# Altium footprint library Power Wires.PcbLib: 1 footprints
Each footprint in its own frame and in the unit in brackets; x right, y up, seen from the top. Pads: shape width x height; smd on the part's side, far side on the other; paste and mask are expansions set on the pad; w line width, h text height; cw(c..) or ccw(c..) is an arc to the next point about the centre after c.
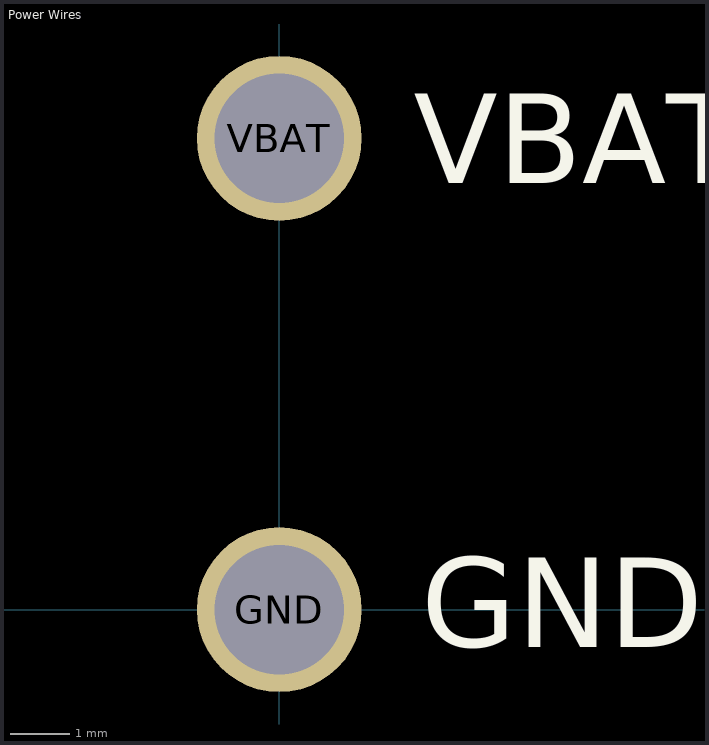
[diagram p0: the footprint, top view; thin cyan lines are the x and y axes]

## Power Wires [mm]
pads (2):
  round 2.8 hole 2.2: GND(0,0) VBAT(0,8)
Top Overlay:
  text "GND" at 2.413,-0.635 h1.52
  text "VBAT" at 2.286,7.239 h1.52